# EAGLE library part DF12?-20DS-0.5V (library Connector)
CONN RECEPT 20POS 0.5MM DF12 SERIES Hirose 0.5mm Pitch SMT Board to Board Connector DF12 Series <http://www.hirose.co.jp/cataloge_hp/en_DF12_20130411.pdf>
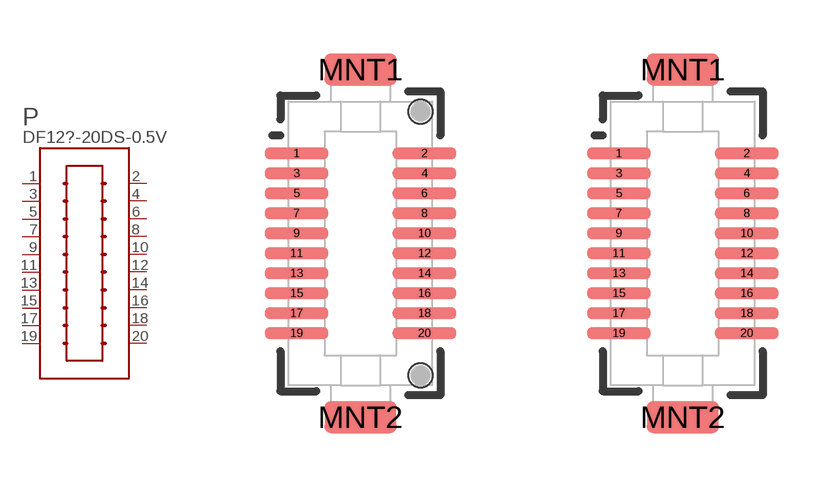
[diagram p7: symbol with the pads of DF12-20DS-0.5V; footprints DF12-20DS-0.5V, DF12B-20DS-0.5V]

Designator prefix P

## DF12-20DS-0.5V (PARTNO: New)  [DF12-20DS-0.5V]
1  1  pas
2  2  pas
3  3  pas
4  4  pas
5  5  pas
6  6  pas
7  7  pas
8  8  pas
9  9  pas
10  10  pas
11  11  pas
12  12  pas
13  13  pas
14  14  pas
15  15  pas
16  16  pas
17  17  pas
18  18  pas
19  19  pas
20  20  pas

## DF12B-20DS-0.5V (PARTNO: New)  [DF12B-20DS-0.5V]
Pads as for DF12-20DS-0.5V

## Footprint DF12-20DS-0.5V (pad centres in mm)
CONN HEADER BRD/BRD .5MM 20POS With Board guide and Solder Retention DF12 Series <http://www.hirose.co.jp/cataloge_hp/en_DF12_20130411.pdf>
smd 1.6 x 0.3: 1 -1.6,2.25; 2 1.6,2.25; 3 -1.6,1.75; 4 1.6,1.75; 5 -1.6,1.25; 6 1.6,1.25; 7 -1.6,0.75; 8 1.6,0.75; 9 -1.6,0.25; 10 1.6,0.25; 11 -1.6,-0.25; 12 1.6,-0.25; 13 -1.6,-0.75; 14 1.6,-0.75; 15 -1.6,-1.25; 16 1.6,-1.25; 17 -1.6,-1.75; 18 1.6,-1.75; 19 -1.6,-2.25; 20 1.6,-2.25
smd 1.8 x 0.8: MNT1 0,4.35; MNT2 0,-4.35
hole 0.6 at 1.5,3.3
hole 0.6 at 1.5,-3.3

## Footprint DF12B-20DS-0.5V (pad centres in mm)
CONN HEADER BRD/BRD .5MM 20POS With Solder Retention DF12 Series <http://www.hirose.co.jp/cataloge_hp/en_DF12_20130411.pdf>
smd 1.6 x 0.3: 1 -1.6,2.25; 2 1.6,2.25; 3 -1.6,1.75; 4 1.6,1.75; 5 -1.6,1.25; 6 1.6,1.25; 7 -1.6,0.75; 8 1.6,0.75; 9 -1.6,0.25; 10 1.6,0.25; 11 -1.6,-0.25; 12 1.6,-0.25; 13 -1.6,-0.75; 14 1.6,-0.75; 15 -1.6,-1.25; 16 1.6,-1.25; 17 -1.6,-1.75; 18 1.6,-1.75; 19 -1.6,-2.25; 20 1.6,-2.25
smd 1.8 x 0.8: MNT1 0,4.35; MNT2 0,-4.35